# Altium schematic symbol library 0603capacitor.SchLib: 1 symbol
Pins are listed as number, name and electrical type; pins without a type are passive.

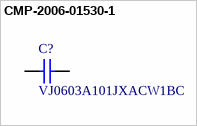
[diagram p0: symbol CMP-2006-01530-1]

## CMP-2006-01530-1
designator C?, comment VJ0603A101JXACW1BC
Manufacturer: Vitramon; Part Number: VJ0603A101JXACW1BC
footprint CAPC1608X95X40ML15T15 (Chip Capacitor, 2-Leads, Body 1.60x0.80mm, IPC Low Density)
footprint CAPC1608X95X40NL15T15 (Chip Capacitor, 2-Leads, Body 1.60x0.80mm, IPC Medium Density)
footprint CAPC1608X95X40LL15T15 (Chip Capacitor, 2-Leads, Body 1.60x0.80mm, IPC High Density)
pins: 1, 2
1 alternate drawing of the same symbol